# EAGLE library part MC34074D (library custom)
Op-Amp Quad
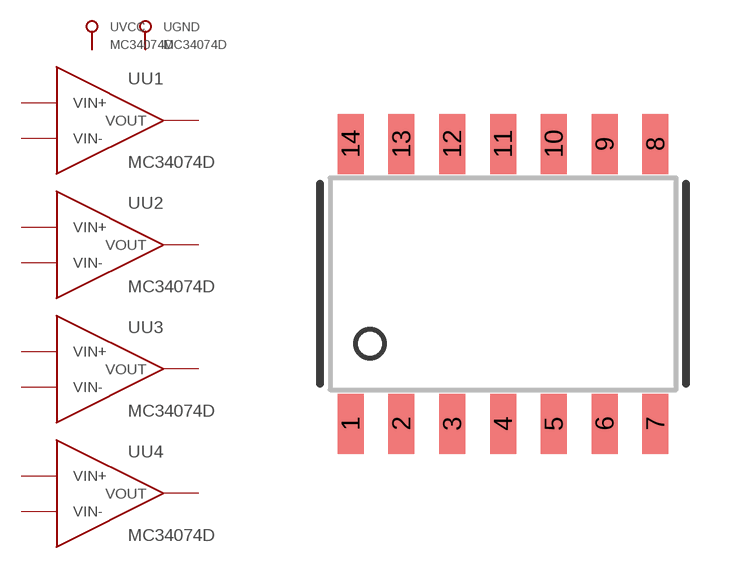
[diagram p23: symbol with the pads of 14-SOICW; footprint 14-SOICW]

Designator prefix -; gates U2=OP-AMP U1=OP-AMP U3=OP-AMP U4=OP-AMP GND=TP VCC=TP

## MC34074D  [14-SOICW]
1  U1:VOUT
2  U1:VIN-
3  U1:VIN+
4  VCC:1
5  U2:VIN+
6  U2:VIN-
7  U2:VOUT
8  U3:VOUT
9  U3:VIN-
10  U3:VIN+
11  GND:1
12  U4:VIN+
13  U4:VIN-
14  U4:VOUT

## Footprint 14-SOICW (pad centres in mm)
smd 0.65 x 1.5: 1 -4.445,-3.5; 2 -3.175,-3.5; 3 -1.905,-3.5; 4 -0.635,-3.5; 5 0.635,-3.5; 6 1.905,-3.5; 7 3.175,-3.5; 8 3.175,3.5; 9 1.905,3.5; 10 0.635,3.5; 11 -0.635,3.5; 12 -1.905,3.5; 13 -3.175,3.5; 14 -4.445,3.5